# EAGLE library part N01S830HAT22I (library PCB_Components)
ON Semiconductor SRAM, N01S830HAT22I- 1Mbit Source: Datasheet <https://www.onsemi.com/pub/Collateral/N01S830HA-D.PDF>
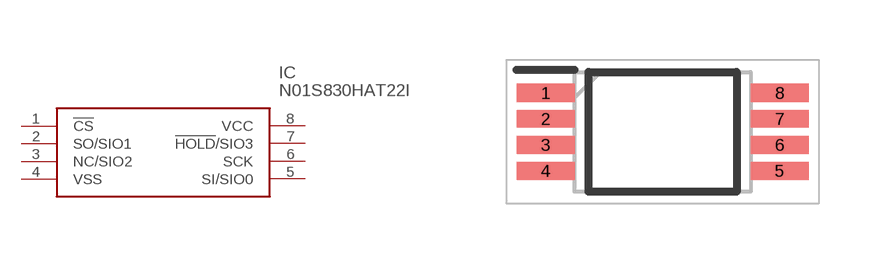
[diagram p3: symbol with the pads of SOP65P640X110-8N; footprint SOP65P640X110-8N]

Designator prefix IC

## N01S830HAT22I (ARROW_PART_NUMBER: N01S830HAT22I; ARROW_PRICE-STOCK: https://www.arrow.com/en/products/n01s830hat22i/on-semiconductor; DESCRIPTION: ON Semiconductor SRAM, N01S830HAT22I- 1Mbit; HEIGHT: 1.1mm; MANUFACTURER_NAME: ON Semiconductor; MANUFACTURER_PART_NUMBER: N01S830HAT22I; MOUSER_PART_NUMBER: 863-N01S830HAT22I; MOUSER_PRICE-STOCK: https://www.mouser.com/Search/Refine.aspx?Keyword=863-N01S830HAT22I)  [SOP65P640X110-8N]
1  !CS
2  SO/SIO1
3  NC/SIO2
4  VSS
5  SI/SIO0
6  SCK
7  !HOLD!/SIO3
8  VCC

## Footprint SOP65P640X110-8N (pad centres in mm)
N01S830HAT22I
smd 1.45 x 0.45: 1 -2.925,0.975; 2 -2.925,0.325; 3 -2.925,-0.325; 4 -2.925,-0.975; 5 2.925,-0.975; 6 2.925,-0.325; 7 2.925,0.325; 8 2.925,0.975